# EAGLE library part 32CTQ030/TO_1_TSSOP10_IP4283CZ1 (library BeagleBone_Black_egl)
32CTQ030/TO_1_TSSOP10_IP4283CZ1
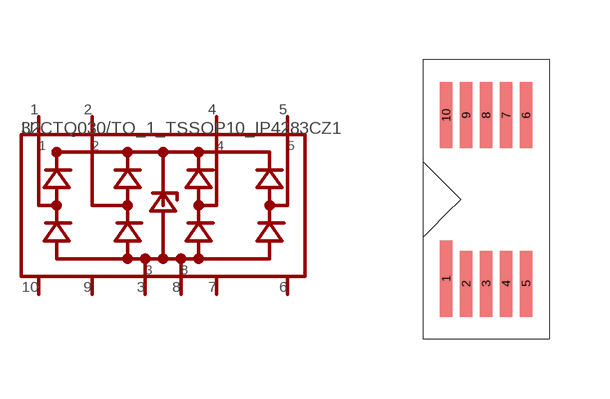
[diagram p0: symbol with the pads of TSSOP10; footprint TSSOP10]

Designator prefix -

## 32CTQ030/TO_1_TSSOP10_IP4283CZ1  [TSSOP10]
1  1
2  2
3  6
4  4
5  5
6  9
7  8
8  3
9  10
10  7

## Footprint TSSOP10 (pad centres in mm)
smd 0.305 x 1.905: 1 -1,-1.981
smd 0.305 x 1.651: 2 -0.5,-2.108; 3 0,-2.108; 4 0.5,-2.108; 5 1,-2.108; 6 1,2.108; 7 0.5,2.108; 8 0,2.108; 9 -0.5,2.108; 10 -1,2.108